# EAGLE library part LC-204_DN (library mibe)
LC-204 DN - The LC-204 series represents 4-digit LED numeric displays designed to take up a minimum of space. The character size is 6 mm, the pin arrangement spacing is 1.8 mm and the shape is the same as a DIL package.
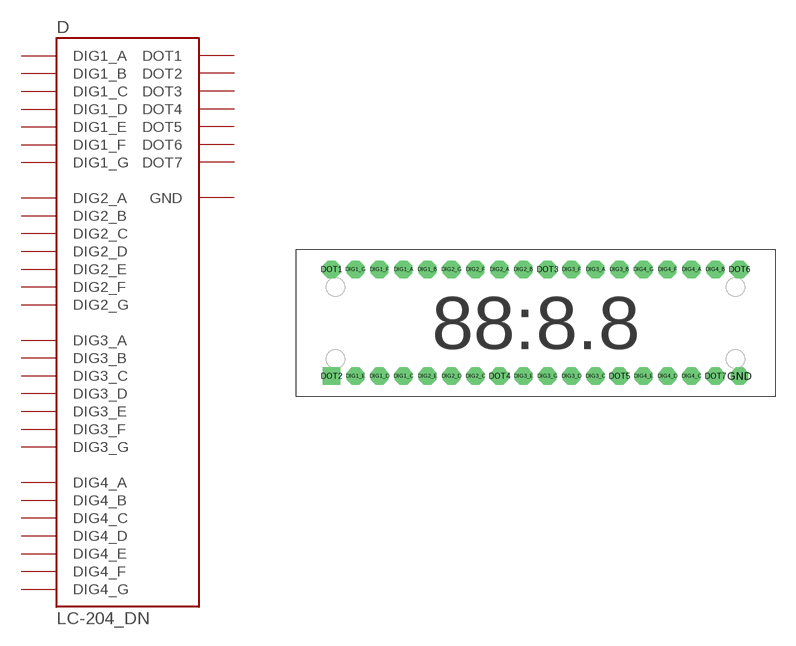
[diagram p3: symbol with the pads of LC-204_DN; footprint LC-204_DN]

Designator prefix D

## LC-204_DN  [LC-204_DN]
DIG1_A  DIG1_A  in
DIG1_B  DIG1_B  in
DIG1_C  DIG1_C  in
DIG1_D  DIG1_D  in
DIG1_E  DIG1_E  in
DIG1_F  DIG1_F  in
DIG1_G  DIG1_G  in
DIG2_A  DIG2_A  in
DIG2_B  DIG2_B  in
DIG2_C  DIG2_C  in
DIG2_D  DIG2_D  in
DIG2_E  DIG2_E  in
DIG2_F  DIG2_F  in
DIG2_G  DIG2_G  in
DIG3_A  DIG3_A  in
DIG3_B  DIG3_B  in
DIG3_C  DIG3_C  in
DIG3_D  DIG3_D  in
DIG3_E  DIG3_E  in
DIG3_F  DIG3_F  in
DIG3_G  DIG3_G  in
DIG4_A  DIG4_A  in
DIG4_B  DIG4_B  in
DIG4_C  DIG4_C  in
DIG4_D  DIG4_D  in
DIG4_E  DIG4_E  in
DIG4_F  DIG4_F  in
DIG4_G  DIG4_G  in
DOT1  DOT1  in
DOT2  DOT2  in
DOT3  DOT3  in
DOT4  DOT4  in
DOT5  DOT5  in
DOT6  DOT6  in
DOT7  DOT7  in
GND  GND  pwr

## Footprint LC-204_DN (pad centres in mm)
drill 0.8 octagon: DIG1_A 5.4,4.19; DIG1_B 7.2,4.19; DIG1_C 5.4,-3.81; DIG1_D 3.6,-3.81; DIG1_E 1.8,-3.81; DIG1_F 3.6,4.19; DIG1_G 1.8,4.19; DIG2_A 12.6,4.19; DIG2_B 14.4,4.19; DIG2_C 10.8,-3.81; DIG2_D 9,-3.81; DIG2_E 7.2,-3.81; DIG2_F 10.8,4.19; DIG2_G 9,4.19; DIG3_A 19.8,4.19; DIG3_B 21.6,4.19; DIG3_C 19.8,-3.81; DIG3_D 18,-3.81; DIG3_E 14.4,-3.81; DIG3_F 18,4.19; DIG3_G 16.2,-3.81; DIG4_A 27,4.19; DIG4_B 28.8,4.19; DIG4_C 27,-3.81; DIG4_D 25.2,-3.81; DIG4_E 23.4,-3.81; DIG4_F 25.2,4.19; DIG4_G 23.4,4.19; DOT1 0,4.19; DOT3 16.2,4.19; DOT4 12.6,-3.81; DOT5 21.6,-3.81; DOT6 30.6,4.19; DOT7 28.8,-3.81; GND 30.6,-3.81
drill 0.8 square: DOT2 0,-3.81